# Altium schematic symbol library Ethernet Connectors.SchLib: 1 symbol
Pins are listed as number, name and electrical type; pins without a type are passive.

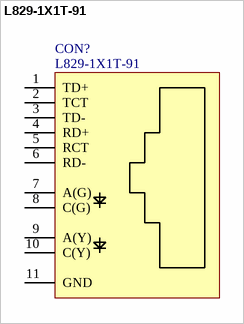
[diagram p0: symbol L829-1X1T-91]

## L829-1X1T-91
designator CON?
footprint L829-1X1T-91
pins: 1 TD+, 2 TCT, 3 TD-, 4 RD+, 5 RCT, 6 RD-, 7 A(G), 8 C(G), 9 A(Y), 10 C(Y), 11 GND